# Altium schematic symbol library Резистор - обозначение.SchLib: 1 symbol
Pins are listed as number, name and electrical type; pins without a type are passive.

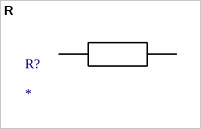
[diagram p0: symbol R]

## R
designator R?
pins: 4, 5